# EAGLE library part SN74CB3Q3251 (library AniBike_Common_Library)
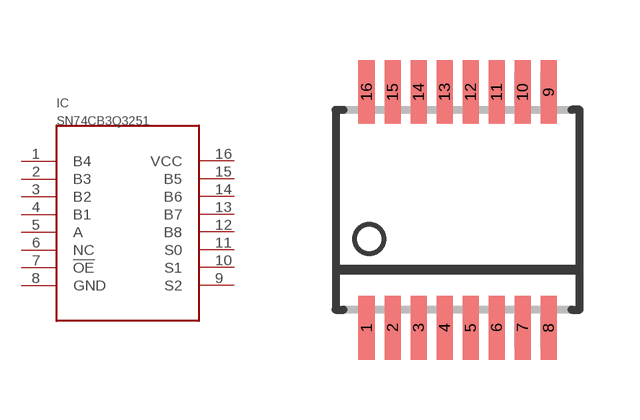
[diagram p12: symbol with the pads of TSSOP16; footprint TSSOP16]

Designator prefix IC

## SN74CB3Q3251TSSOP16  [TSSOP16]
1  B4
2  B3
3  B2
4  B1
5  A
6  NC
7  !OE!
8  GND
9  S2
10  S1
11  S0
12  B8
13  B7
14  B6
15  B5
16  VCC

## Footprint TSSOP16 (pad centres in mm)
TSOP16 thin small outline package
smd 0.4 x 1.6: 1 -2.225,-2.85; 2 -1.575,-2.85; 3 -0.925,-2.85; 4 -0.275,-2.85; 5 0.375,-2.85; 6 1.025,-2.85; 7 1.675,-2.85; 8 2.325,-2.85; 9 2.325,3.05; 10 1.675,3.05; 11 1.025,3.05; 12 0.375,3.05; 13 -0.275,3.05; 14 -0.925,3.05; 15 -1.575,3.05; 16 -2.225,3.05